# Altium footprint library crystal_my.PCBLIB: 68 footprints (part 2 of 5)
Each footprint in its own frame and in the unit in brackets; x right, y up, seen from the top. Pads: shape width x height; smd on the part's side, far side on the other; paste and mask are expansions set on the pad; w line width, h text height; cw(c..) or ccw(c..) is an arc to the next point about the centre after c.
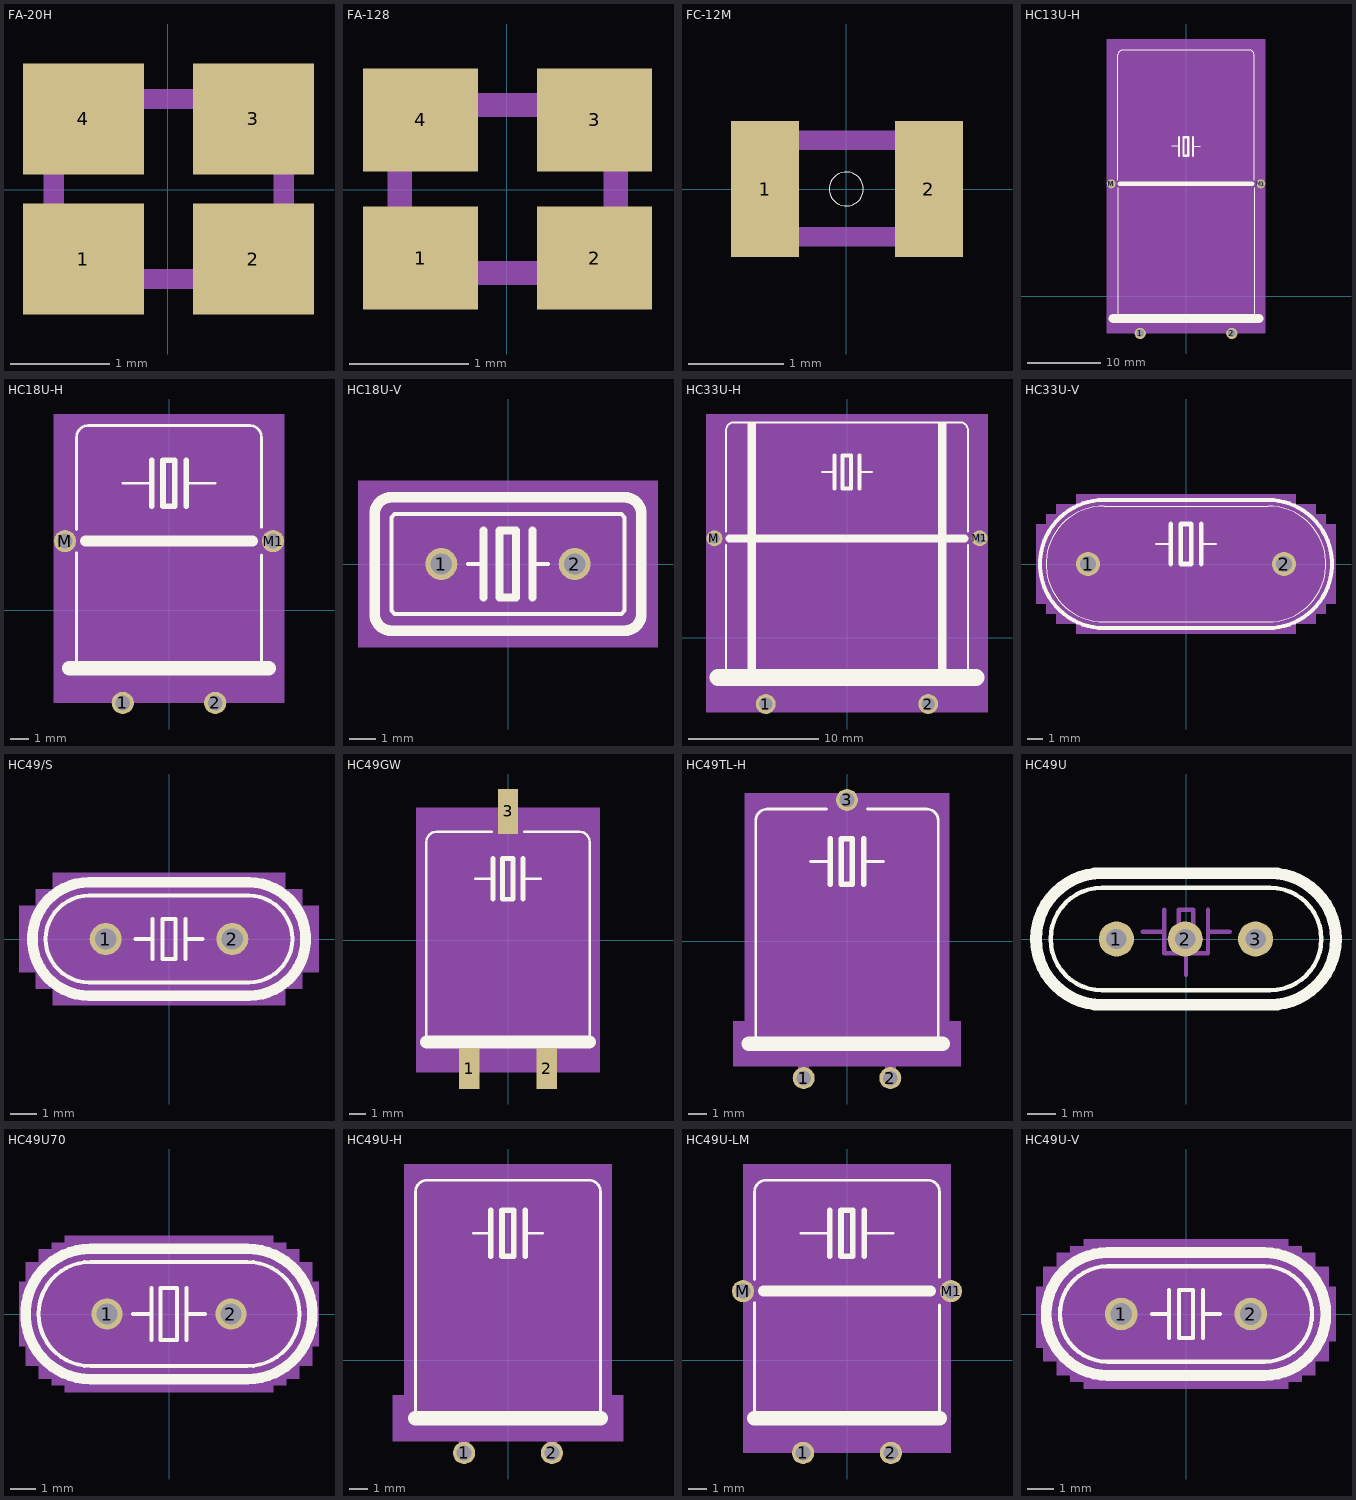
[diagram p1: the footprints below, top view; thin cyan lines are the x and y axes]

## FA-20H [mil]
pads (4):
  rect 48x44 smd: 1(-33.46,-27.56) 2(34,-27.56) 3(34,28) 4(-33.46,28)
Top Paste:
  rectangle: -55.12,8 -11.81,48
  rectangle: 12,8 56,48
  rectangle: -55.12,-47.24 -11.81,-7.87
  region: 0,0 10,0 10,10 0,10
Top Solder:
  rectangle: -59.06,4 -7.87,52
  rectangle: 8,4 60,52
  rectangle: -59.06,-51.18 -7.87,-3.94
  region: 0,0 10,0 10,10 0,10
Mechanical 16:
  lines w8: -45.28,-35.43 46,-35.43 46,36 -45.28,36 -45.28,-35.43

## FA-128 [mil]
pads (4):
  rect 38x34 smd: 1(-28.54,-22.64) 2(29,-22.64) 3(29,23) 4(-28.54,23)
Top Paste:
  rectangle: -45.28,8 -11.81,38
  rectangle: 12,8 46,38
  rectangle: -45.28,-37.4 -11.81,-7.87
  region: 0,0 10,0 10,10 0,10
Top Solder:
  rectangle: -49.21,4 -7.87,42
  rectangle: 8,4 50,42
  rectangle: -49.21,-41.34 -7.87,-3.94
  region: 0,0 10,0 10,10 0,10
Mechanical 16:
  lines w8: -35.43,-27.56 36,-27.56 36,28 -35.43,28 -35.43,-27.56

## FC-12M [mil]
pads (2):
  rect 28x56 smd: 1(-33.46,0) 2(34,0)
Top Overlay:
  circle w0: c0,0 r7
Mechanical 16:
  lines w8: -36.42,-19.68 37,-19.68 37,20 -36.42,20 -36.42,-19.68

## HC13U-H [mil]
pads (4):
  round 60 hole 40: 1(-245,-200) 2(245,-200)
  round 48 hole 32: M(-400,600) M1(400,600)
Top Overlay:
  lines w6: -365,-120 -365,580 ; -365,620 -365,1290 cw(c-340,1290) -340,1315 340,1315 cw(c340,1290) 365,1290 365,620 ; -75,800 -37,800 ; 37,800 75,800 ; 365,-120 365,580
  lines w12: -37,750 -37,800 -37,850 ; 37,750 37,800 37,850 ; -13,750 -13,850 12,850 12,750 -13,750
  lines w24: -355,600 355,600
  lines w50: -390,-120 -365,-120 365,-120 390,-120
Mechanical 10:
  rectangle: -425,-200 425,1375
Mechanical 16:
  lines w6: -365,580 -365,620 ; 365,580 365,620
  lines w24: -400,600 -360,600 ; 360,600 400,600
  lines w32: -245,-200 -245,-125 ; 245,-200 245,-125

## HC18U-H [mil]
pads (4):
  round 48 hole 32: 1(-100,-200) 2(100,-200) M(-225,150) M1(225,150)
Top Overlay:
  lines w6: -200,-125 -200,125 ; -200,175 -200,375 cw(c-175,375) -175,400 175,400 cw(c175,375) 200,375 200,180 ; -100,275 -37,275 ; 37,275 100,275 ; 200,-125 200,120
  lines w12: -37,225 -37,275 -37,325 ; 37,225 37,275 37,325 ; -13,225 -13,325 12,325 12,225 -13,225
  lines w24: -180,150 180,150
  lines w32: -215,-125 -200,-125 200,-125 215,-125
Mechanical 10:
  rectangle: -250,-200 250,425
Mechanical 16:
  lines w6: -200,125 -200,175 ; 200,120 200,150 200,180
  lines w24: -225,150 -185,150 ; -100,-200 -100,-130 ; 100,-200 100,-130 ; 180,150 200,150 225,150

## HC18U-V [mil]
pads (2):
  round 48 hole 32: 1(-100,0) 2(100,0)
Top Overlay:
  lines w6: -60,0 -37,0 ; 37,0 60,0 ; -175,-70 -175,70 -170,75 170,75 175,70 175,-70 170,-75 -170,-75 -175,-70
  lines w12: -37,-50 -37,0 -37,50 ; 37,-50 37,0 37,50 ; -13,-50 -13,50 12,50 12,-50 -13,-50
  lines w16: -200,-75 -200,75 cw(c-175,75) -175,100 175,100 cw(c175,75) 200,75 200,-75 cw(c175,-75) 175,-100 -175,-100 cw(c-175,-75) -200,-75
Mechanical 10:
  rectangle: -225,-125 225,125

## HC33U-H [mil]
pads (4):
  round 60 hole 40: 1(-245,-200) 2(245,-200)
  round 48 hole 32: M(-400,300) M1(400,300)
Top Overlay:
  rectangle: -300,-125 -275,650
  rectangle: 275,-125 300,650
  lines w6: -365,-120 -365,280 ; -365,320 -365,625 cw(c-340,625) -340,650 340,650 cw(c340,625) 365,625 365,320 ; -75,500 -37,500 ; 37,500 75,500 ; 365,-120 365,280
  lines w12: -37,450 -37,500 -37,550 ; 37,450 37,500 37,550 ; -13,450 -13,550 12,550 12,450 -13,450
  lines w24: -355,300 355,300
  lines w50: -390,-120 -365,-120 365,-120 390,-120
Mechanical 10:
  rectangle: -425,-225 425,675
Mechanical 16:
  lines w6: -365,280 -365,320 ; 365,280 365,320
  lines w24: -400,300 -360,300 ; 360,300 400,300
  lines w32: -245,-200 -245,-125 ; 245,-200 245,-125

## HC33U-V [mil]
pads (2):
  round 60 hole 40: 1(-245,0) 2(245,0)
Top Overlay:
  lines w2: -205,-145 205,-145 ccw(c205,0) 205,145 -205,145 ccw(c-205,0) -205,-145
  lines w6: -75,50 -38,50 ; 38,50 75,50
  lines w10: -205,-160 205,-160 ccw(c205,0) 205,160 -205,160 ccw(c-205,0) -205,-160
  lines w12: -38,0 -38,50 -38,100 ; 38,0 38,50 38,100 ; -13,0 -13,100 13,100 13,0 -13,0
Mechanical 10:
  rectangle: -325,-150 -275,150
  rectangle: -350,-125 -325,125
  rectangle: -375,-100 -350,100
  rectangle: -275,-175 275,175
  rectangle: 275,-150 325,150
  rectangle: 325,-125 350,125
  rectangle: 350,-100 375,100

## HC49/S [mil]
pads (2):
  round 48 hole 32: 1(-95,0) 2(95,0)
Top Overlay:
  lines w6: -50,0 -25,0 ; -25,-30 -25,0 ; -25,30 -25,0 ; 25,-30 25,0 ; 25,30 25,0 ; 50,0 25,0 ; -120,-65 120,-65 ccw(c120,0) 120,65 -120,65 ccw(c-120,0) -120,-65 ; -10,-30 10,-30 10,30 -10,30 -10,-30
  lines w16: -120,-85 120,-85 ccw(c120,0) 120,85 -120,85 ccw(c-120,0) -120,-85
Mechanical 10:
  rectangle: -175,-100 175,100
  rectangle: -200,-75 -175,75
  rectangle: -225,-50 -200,50
  rectangle: 175,-75 200,75
  rectangle: 200,-50 225,50

## HC49GW [mil]
pads (3):
  rect 50x100 smd: 1(-95,-315) 2(95,-315)
  rect 50x110 smd: 3(0,315)
Top Overlay:
  lines w6: -200,-250 -200,240 cw(c-175,240) -175,265 -40,265 ; -80,150 -37,150 ; 37,150 80,150 ; 40,265 175,265 cw(c175,240) 200,240 200,-250
  lines w12: -37,100 -37,150 -37,200 ; 37,100 37,150 37,200 ; -13,100 -13,200 12,200 12,100 -13,100
  lines w32: -200,-250 200,-250
Mechanical 10:
  rectangle: -225,-325 225,325
Mechanical 16:
  lines w6: -40,265 40,265
  lines w24: -95,-325 -95,-260 ; 0,275 0,330 ; 95,-330 95,-255

## HC49TL-H [mil]
pads (3):
  round 48 hole 32: 1(-95,-300) 2(95,-300) 3(0,310)
Top Overlay:
  lines w6: -200,-225 -200,265 cw(c-175,265) -175,290 -45,290 ; -80,175 -37,175 ; 37,175 80,175 ; 45,290 175,290 cw(c175,265) 200,265 200,-225
  lines w12: -37,125 -37,175 -37,225 ; 37,125 37,175 37,225 ; -13,125 -13,225 12,225 12,125 -13,125
  lines w32: -215,-225 210,-225
Mechanical 10:
  rectangle: -250,-275 250,-175
  rectangle: -225,-175 225,325
Mechanical 16:
  rectangle: -12,290 12,298
  lines w6: -45,290 45,290
  lines w24: -95,-300 -95,-230 ; 0,300 0,310 ; 95,-300 95,-230

## HC49U [mil]
pads (3):
  round 48 hole 28: 1(-95,0) 2(-1.06,0) 3(95,0)
Top Overlay:
  lines w6: -115,-70 115,-70 ccw(c115,0) 115,70 -115,70 ccw(c-115,0) -115,-70
  lines w16: -115,-90 115,-90 ccw(c115,0) 115,90 -115,90 ccw(c-115,0) -115,-90
Mechanical 16:
  lines w6: -59.06,10 -29.53,10 ; -29.53,40 -29.53,10 ; 0,-49.21 0,-24.61 ; 30,40 30,10 ; 60,10 30,10 ; -29.53,10 -29.53,-19.68 30,-19.68 30,10 ; -9.84,-9.84 10,-9.84 10,40 -9.84,40 -9.84,-9.84

## HC49U70 [mil]
pads (2):
  round 48 hole 32: 1(-95,0) 2(95,0)
Top Overlay:
  lines w6: -55,0 -27,0 ; -27,-40 -27,0 ; -27,40 -27,0 ; 27,-40 27,0 ; 27,40 27,0 ; 55,0 27,0 ; -120,-80 120,-80 ccw(c120,0) 120,80 -120,80 ccw(c-120,0) -120,-80 ; -13,-40 -13,40 12,40 12,-40 -13,-40
  lines w16: -120,-100 120,-100 ccw(c120,0) 120,100 -120,100 ccw(c-120,0) -120,-100
Mechanical 10:
  rectangle: -180,-110 -160,110
  rectangle: -200,-100 -180,100
  rectangle: -220,-80 -200,80
  rectangle: -230,-50 -220,50
  rectangle: -160,-120 160,120
  rectangle: 160,-110 180,110
  rectangle: 180,-100 200,100
  rectangle: 200,-80 220,80
  rectangle: 220,-50 230,50

## HC49U-H [mil]
pads (2):
  round 48 hole 32: 1(-95,-200) 2(95,-200)
Top Overlay:
  lines w6: -200,-125 -200,365 cw(c-175,365) -175,390 175,390 cw(c175,365) 200,365 200,-125 ; -75,275 -37,275 ; 37,275 75,275
  lines w12: -37,225 -37,275 -37,325 ; 37,225 37,275 37,325 ; -13,225 -13,325 12,325 12,225 -13,225
  lines w32: -200,-125 200,-125
Mechanical 10:
  rectangle: -250,-175 250,-75
  rectangle: -225,-75 225,425
Mechanical 16:
  lines w24: -95,-200 -95,-130 ; 95,-200 95,-130

## HC49U-LM [mil]
pads (4):
  round 48 hole 32: 1(-95,-200) 2(95,-200) M(-225,150) M1(225,150)
Top Overlay:
  lines w6: -200,-125 -200,125 ; -200,175 -200,365 cw(c-175,365) -175,390 175,390 cw(c175,365) 200,365 200,180 ; -100,275 -37,275 ; 37,275 100,275 ; 200,-125 200,120
  lines w12: -37,225 -37,275 -37,325 ; 37,225 37,275 37,325 ; -13,225 -13,325 12,325 12,225 -13,225
  lines w24: -180,150 180,150
  lines w32: -200,-125 200,-125
Mechanical 10:
  rectangle: -225,-200 225,425
Mechanical 16:
  lines w6: -200,125 -200,175 ; 200,120 200,150 200,180
  lines w24: -225,150 -185,150 ; -95,-200 -95,-130 ; 95,-200 95,-130 ; 180,150 200,150 225,150

## HC49U-V [mil]
pads (2):
  round 48 hole 32: 1(-95,0) 2(95,0)
Top Overlay:
  lines w6: -50,0 -25,0 ; -25,-35 -25,0 ; -25,35 -25,0 ; 25,-35 25,0 ; 25,35 25,0 ; 50,0 25,0 ; -115,-70 115,-70 ccw(c115,0) 115,70 -115,70 ccw(c-115,0) -115,-70 ; -10,-35 10,-35 10,35 -10,35 -10,-35
  lines w16: -115,-90 115,-90 ccw(c115,0) 115,90 -115,90 ccw(c-115,0) -115,-90
Mechanical 10:
  rectangle: -150,-110 150,110
  rectangle: -170,-100 -150,100
  rectangle: -190,-90 -170,90
  rectangle: -210,-70 -190,70
  rectangle: -220,-50 -210,40
  rectangle: 150,-100 170,100
  rectangle: 170,-90 190,90
  rectangle: 190,-70 210,70
  rectangle: 210,-40 220,40